# Altium footprint library IPC-7358 BGA_Sq_150P.PcbLib: 47 footprints (part 4 of 6)
Each footprint in its own frame and in the unit in brackets; x right, y up, seen from the top. Pads: shape width x height; smd on the part's side, far side on the other; paste and mask are expansions set on the pad; w line width, h text height; cw(c..) or ccw(c..) is an arc to the next point about the centre after c.
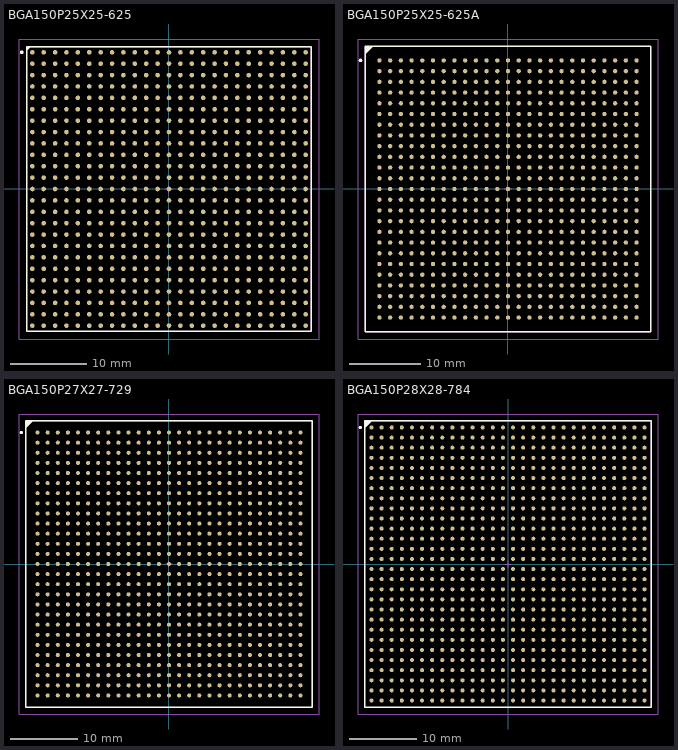
[diagram p3: the footprints below, top view; thin cyan lines are the x and y axes]

## BGA150P25X25-625 [mm] "BGA, 625-Leads, Body 37.5x37.5mm, Pitch 1.5mm"
height 3.5
pads (625):
  round 0.6 smd: A1(-18,18) A2(-16.5,18) A3(-15,18) A4(-13.5,18) A5(-12,18) A6(-10.5,18) A7(-9,18) A8(-7.5,18) A9(-6,18) A10(-4.5,18) A11(-3,18) A12(-1.5,18) A13(0,18) A14(1.5,18) A15(3,18) A16(4.5,18) A17(6,18) A18(7.5,18) A19(9,18) A20(10.5,18) A21(12,18) A22(13.5,18) A23(15,18) A24(16.5,18) A25(18,18) AA1(-18,-12) AA2(-16.5,-12) AA3(-15,-12) AA4(-13.5,-12) AA5(-12,-12) AA6(-10.5,-12) AA7(-9,-12) AA8(-7.5,-12) AA9(-6,-12) AA10(-4.5,-12) AA11(-3,-12) AA12(-1.5,-12) AA13(0,-12) AA14(1.5,-12) AA15(3,-12) AA16(4.5,-12) AA17(6,-12) AA18(7.5,-12) AA19(9,-12) AA20(10.5,-12) AA21(12,-12) AA22(13.5,-12) AA23(15,-12) AA24(16.5,-12) AA25(18,-12) AB1(-18,-13.5) AB2(-16.5,-13.5) AB3(-15,-13.5) AB4(-13.5,-13.5) AB5(-12,-13.5) AB6(-10.5,-13.5) AB7(-9,-13.5) AB8(-7.5,-13.5) AB9(-6,-13.5) AB10(-4.5,-13.5) AB11(-3,-13.5) AB12(-1.5,-13.5) AB13(0,-13.5) AB14(1.5,-13.5) AB15(3,-13.5) AB16(4.5,-13.5) AB17(6,-13.5) AB18(7.5,-13.5) AB19(9,-13.5) AB20(10.5,-13.5) AB21(12,-13.5) AB22(13.5,-13.5) AB23(15,-13.5) AB24(16.5,-13.5) AB25(18,-13.5) AC1(-18,-15) AC2(-16.5,-15) AC3(-15,-15) AC4(-13.5,-15) AC5(-12,-15) AC6(-10.5,-15) AC7(-9,-15) AC8(-7.5,-15) AC9(-6,-15) AC10(-4.5,-15) AC11(-3,-15) AC12(-1.5,-15) AC13(0,-15) AC14(1.5,-15) AC15(3,-15) AC16(4.5,-15) AC17(6,-15) AC18(7.5,-15) AC19(9,-15) AC20(10.5,-15) AC21(12,-15) AC22(13.5,-15) AC23(15,-15) AC24(16.5,-15) AC25(18,-15) AD1(-18,-16.5) AD2(-16.5,-16.5) AD3(-15,-16.5) AD4(-13.5,-16.5) AD5(-12,-16.5) AD6(-10.5,-16.5) AD7(-9,-16.5) AD8(-7.5,-16.5) AD9(-6,-16.5) AD10(-4.5,-16.5) AD11(-3,-16.5) AD12(-1.5,-16.5) AD13(0,-16.5) AD14(1.5,-16.5) AD15(3,-16.5) AD16(4.5,-16.5) AD17(6,-16.5) AD18(7.5,-16.5) AD19(9,-16.5) AD20(10.5,-16.5) AD21(12,-16.5) AD22(13.5,-16.5) AD23(15,-16.5) AD24(16.5,-16.5) AD25(18,-16.5) AE1(-18,-18) AE2(-16.5,-18) AE3(-15,-18) AE4(-13.5,-18) AE5(-12,-18) AE6(-10.5,-18) AE7(-9,-18) AE8(-7.5,-18) AE9(-6,-18) AE10(-4.5,-18) AE11(-3,-18) AE12(-1.5,-18) AE13(0,-18) AE14(1.5,-18) AE15(3,-18) AE16(4.5,-18) AE17(6,-18) AE18(7.5,-18) AE19(9,-18) AE20(10.5,-18) AE21(12,-18) AE22(13.5,-18) AE23(15,-18) AE24(16.5,-18) AE25(18,-18) B1(-18,16.5) B2(-16.5,16.5) B3(-15,16.5) B4(-13.5,16.5) B5(-12,16.5) B6(-10.5,16.5) B7(-9,16.5) B8(-7.5,16.5) B9(-6,16.5) B10(-4.5,16.5) B11(-3,16.5) B12(-1.5,16.5) B13(0,16.5) B14(1.5,16.5) B15(3,16.5) B16(4.5,16.5) B17(6,16.5) B18(7.5,16.5) B19(9,16.5) B20(10.5,16.5) B21(12,16.5) B22(13.5,16.5) B23(15,16.5) B24(16.5,16.5) B25(18,16.5) C1(-18,15) C2(-16.5,15) C3(-15,15) C4(-13.5,15) C5(-12,15) C6(-10.5,15) C7(-9,15) C8(-7.5,15) C9(-6,15) C10(-4.5,15) C11(-3,15) C12(-1.5,15) C13(0,15) C14(1.5,15) C15(3,15) C16(4.5,15) C17(6,15) C18(7.5,15) C19(9,15) C20(10.5,15) C21(12,15) C22(13.5,15) C23(15,15) C24(16.5,15) C25(18,15) D1(-18,13.5) D2(-16.5,13.5) D3(-15,13.5) D4(-13.5,13.5) D5(-12,13.5) D6(-10.5,13.5) D7(-9,13.5) D8(-7.5,13.5) D9(-6,13.5) D10(-4.5,13.5) D11(-3,13.5) D12(-1.5,13.5) D13(0,13.5) D14(1.5,13.5) D15(3,13.5) D16(4.5,13.5) D17(6,13.5) D18(7.5,13.5) D19(9,13.5) D20(10.5,13.5) D21(12,13.5) D22(13.5,13.5) D23(15,13.5) D24(16.5,13.5) D25(18,13.5) E1(-18,12) E2(-16.5,12) E3(-15,12) E4(-13.5,12) E5(-12,12) E6(-10.5,12) E7(-9,12) E8(-7.5,12) E9(-6,12) E10(-4.5,12) E11(-3,12) E12(-1.5,12) E13(0,12) E14(1.5,12) E15(3,12) E16(4.5,12) E17(6,12) E18(7.5,12) E19(9,12) E20(10.5,12) E21(12,12) E22(13.5,12) E23(15,12) E24(16.5,12) E25(18,12) F1(-18,10.5) F2(-16.5,10.5) F3(-15,10.5) F4(-13.5,10.5) F5(-12,10.5) F6(-10.5,10.5) F7(-9,10.5) F8(-7.5,10.5) F9(-6,10.5) F10(-4.5,10.5) F11(-3,10.5) F12(-1.5,10.5) F13(0,10.5) F14(1.5,10.5) F15(3,10.5) F16(4.5,10.5) F17(6,10.5) F18(7.5,10.5) F19(9,10.5) F20(10.5,10.5) F21(12,10.5) F22(13.5,10.5) F23(15,10.5) F24(16.5,10.5) F25(18,10.5) G1(-18,9) G2(-16.5,9) G3(-15,9) G4(-13.5,9) G5(-12,9) G6(-10.5,9) G7(-9,9) G8(-7.5,9) G9(-6,9) G10(-4.5,9) G11(-3,9) G12(-1.5,9) G13(0,9) G14(1.5,9) G15(3,9) G16(4.5,9) G17(6,9) G18(7.5,9) G19(9,9) G20(10.5,9) G21(12,9) G22(13.5,9) G23(15,9) G24(16.5,9) G25(18,9) H1(-18,7.5) H2(-16.5,7.5) H3(-15,7.5) H4(-13.5,7.5) H5(-12,7.5) H6(-10.5,7.5) H7(-9,7.5) H8(-7.5,7.5) H9(-6,7.5) H10(-4.5,7.5) H11(-3,7.5) H12(-1.5,7.5) H13(0,7.5) H14(1.5,7.5) H15(3,7.5) H16(4.5,7.5) H17(6,7.5) H18(7.5,7.5) H19(9,7.5) H20(10.5,7.5) H21(12,7.5) H22(13.5,7.5) H23(15,7.5) H24(16.5,7.5) H25(18,7.5) J1(-18,6) J2(-16.5,6) J3(-15,6) J4(-13.5,6) J5(-12,6) J6(-10.5,6) J7(-9,6) J8(-7.5,6) J9(-6,6) J10(-4.5,6) J11(-3,6) J12(-1.5,6) J13(0,6) J14(1.5,6) J15(3,6) J16(4.5,6) J17(6,6) J18(7.5,6) J19(9,6) J20(10.5,6) J21(12,6) J22(13.5,6) J23(15,6) J24(16.5,6) J25(18,6) K1(-18,4.5) K2(-16.5,4.5) K3(-15,4.5) K4(-13.5,4.5) K5(-12,4.5) K6(-10.5,4.5) K7(-9,4.5) K8(-7.5,4.5) K9(-6,4.5) K10(-4.5,4.5) K11(-3,4.5) K12(-1.5,4.5) K13(0,4.5) K14(1.5,4.5) K15(3,4.5) K16(4.5,4.5) K17(6,4.5) K18(7.5,4.5) K19(9,4.5) K20(10.5,4.5) K21(12,4.5) K22(13.5,4.5) K23(15,4.5) K24(16.5,4.5) K25(18,4.5) L1(-18,3) L2(-16.5,3) L3(-15,3) L4(-13.5,3) L5(-12,3) L6(-10.5,3) L7(-9,3) L8(-7.5,3) L9(-6,3) L10(-4.5,3) L11(-3,3) L12(-1.5,3) L13(0,3) L14(1.5,3) L15(3,3) L16(4.5,3) L17(6,3) L18(7.5,3) L19(9,3) L20(10.5,3) L21(12,3) L22(13.5,3) L23(15,3) L24(16.5,3) L25(18,3) M1(-18,1.5) M2(-16.5,1.5) M3(-15,1.5) M4(-13.5,1.5) M5(-12,1.5) M6(-10.5,1.5) M7(-9,1.5) M8(-7.5,1.5) M9(-6,1.5) M10(-4.5,1.5) M11(-3,1.5) M12(-1.5,1.5) M13(0,1.5) M14(1.5,1.5) M15(3,1.5) M16(4.5,1.5) M17(6,1.5) M18(7.5,1.5) M19(9,1.5) M20(10.5,1.5) M21(12,1.5) M22(13.5,1.5) M23(15,1.5) M24(16.5,1.5) M25(18,1.5) N1(-18,0) N2(-16.5,0) N3(-15,0) N4(-13.5,0) N5(-12,0) N6(-10.5,0) N7(-9,0) N8(-7.5,0) N9(-6,0) N10(-4.5,0) N11(-3,0) N12(-1.5,0) N13(0,0) N14(1.5,0) N15(3,0) N16(4.5,0) N17(6,0) N18(7.5,0) N19(9,0) N20(10.5,0) N21(12,0) N22(13.5,0) N23(15,0) N24(16.5,0) N25(18,0) P1(-18,-1.5) P2(-16.5,-1.5) P3(-15,-1.5) P4(-13.5,-1.5) P5(-12,-1.5) P6(-10.5,-1.5) P7(-9,-1.5) P8(-7.5,-1.5) P9(-6,-1.5) P10(-4.5,-1.5) P11(-3,-1.5) P12(-1.5,-1.5) P13(0,-1.5) P14(1.5,-1.5) P15(3,-1.5) P16(4.5,-1.5) P17(6,-1.5) P18(7.5,-1.5) P19(9,-1.5) P20(10.5,-1.5) P21(12,-1.5) P22(13.5,-1.5) P23(15,-1.5) P24(16.5,-1.5) P25(18,-1.5) R1(-18,-3) R2(-16.5,-3) R3(-15,-3) R4(-13.5,-3) R5(-12,-3) R6(-10.5,-3) R7(-9,-3) R8(-7.5,-3) R9(-6,-3) R10(-4.5,-3) R11(-3,-3) R12(-1.5,-3) R13(0,-3) R14(1.5,-3) R15(3,-3) R16(4.5,-3) R17(6,-3) R18(7.5,-3) R19(9,-3) R20(10.5,-3) R21(12,-3) R22(13.5,-3) R23(15,-3) R24(16.5,-3) R25(18,-3) T1(-18,-4.5) T2(-16.5,-4.5) T3(-15,-4.5) T4(-13.5,-4.5) T5(-12,-4.5) T6(-10.5,-4.5) T7(-9,-4.5) T8(-7.5,-4.5) T9(-6,-4.5) T10(-4.5,-4.5) T11(-3,-4.5) T12(-1.5,-4.5) T13(0,-4.5) T14(1.5,-4.5) T15(3,-4.5) T16(4.5,-4.5) T17(6,-4.5) T18(7.5,-4.5) T19(9,-4.5) T20(10.5,-4.5) T21(12,-4.5) T22(13.5,-4.5) T23(15,-4.5) T24(16.5,-4.5) T25(18,-4.5) U1(-18,-6) U2(-16.5,-6) U3(-15,-6) U4(-13.5,-6) U5(-12,-6) U6(-10.5,-6) U7(-9,-6) U8(-7.5,-6) U9(-6,-6) U10(-4.5,-6) U11(-3,-6) U12(-1.5,-6) U13(0,-6) U14(1.5,-6) U15(3,-6) U16(4.5,-6) U17(6,-6) U18(7.5,-6) U19(9,-6) U20(10.5,-6) U21(12,-6) U22(13.5,-6) U23(15,-6) U24(16.5,-6) U25(18,-6) V1(-18,-7.5) V2(-16.5,-7.5) V3(-15,-7.5) V4(-13.5,-7.5) V5(-12,-7.5) V6(-10.5,-7.5) V7(-9,-7.5) V8(-7.5,-7.5) V9(-6,-7.5) V10(-4.5,-7.5) V11(-3,-7.5) V12(-1.5,-7.5) V13(0,-7.5) V14(1.5,-7.5) V15(3,-7.5) V16(4.5,-7.5) V17(6,-7.5) V18(7.5,-7.5) V19(9,-7.5) V20(10.5,-7.5) V21(12,-7.5) V22(13.5,-7.5) V23(15,-7.5) V24(16.5,-7.5) V25(18,-7.5) W1(-18,-9) W2(-16.5,-9) W3(-15,-9) W4(-13.5,-9) W5(-12,-9) W6(-10.5,-9) W7(-9,-9) W8(-7.5,-9) W9(-6,-9) W10(-4.5,-9) W11(-3,-9) W12(-1.5,-9) W13(0,-9) W14(1.5,-9) W15(3,-9) W16(4.5,-9) W17(6,-9) W18(7.5,-9) W19(9,-9) W20(10.5,-9) W21(12,-9) W22(13.5,-9) W23(15,-9) W24(16.5,-9) W25(18,-9) Y1(-18,-10.5) Y2(-16.5,-10.5) Y3(-15,-10.5) Y4(-13.5,-10.5) Y5(-12,-10.5) Y6(-10.5,-10.5) Y7(-9,-10.5) Y8(-7.5,-10.5) Y9(-6,-10.5) Y10(-4.5,-10.5) Y11(-3,-10.5) Y12(-1.5,-10.5) Y13(0,-10.5) Y14(1.5,-10.5) Y15(3,-10.5) Y16(4.5,-10.5) Y17(6,-10.5) Y18(7.5,-10.5) Y19(9,-10.5) Y20(10.5,-10.5) Y21(12,-10.5) Y22(13.5,-10.5) Y23(15,-10.5) Y24(16.5,-10.5) Y25(18,-10.5)
Top Overlay:
  circle w0.25: c-19.4,18 r0.125
  region: -18.24,18.75 -18.75,18.24 -18.75,18.75
  lines w0.2: -18.75,18.24 -18.24,18.75 ; -18.75,-18.75 18.75,-18.75 18.75,18.75 -18.75,18.75 -18.75,-18.75
Mechanical 13:
  lines w0.1: -18.75,-18.75 18.75,-18.75 18.75,18.75 -18.75,18.75 -18.75,-18.75
Mechanical 15:
  lines w0.1: -0.5,0 0.5,0 ; 0,-0.5 0,0.5 ; -19.75,-19.75 19.75,-19.75 19.75,19.75 -19.75,19.75 -19.75,-19.75
3D body: height 3.5, standoff 0, extent -18.75,-18.75 18.75,18.75

## BGA150P25X25-625A [mm] "BGA, 625-Leads, Body 40x40mm, Pitch 1.5mm"
height 3.5
pads (625):
  round 0.6 smd: A1(-18,18) A2(-16.5,18) A3(-15,18) A4(-13.5,18) A5(-12,18) A6(-10.5,18) A7(-9,18) A8(-7.5,18) A9(-6,18) A10(-4.5,18) A11(-3,18) A12(-1.5,18) A13(0,18) A14(1.5,18) A15(3,18) A16(4.5,18) A17(6,18) A18(7.5,18) A19(9,18) A20(10.5,18) A21(12,18) A22(13.5,18) A23(15,18) A24(16.5,18) A25(18,18) AA1(-18,-12) AA2(-16.5,-12) AA3(-15,-12) AA4(-13.5,-12) AA5(-12,-12) AA6(-10.5,-12) AA7(-9,-12) AA8(-7.5,-12) AA9(-6,-12) AA10(-4.5,-12) AA11(-3,-12) AA12(-1.5,-12) AA13(0,-12) AA14(1.5,-12) AA15(3,-12) AA16(4.5,-12) AA17(6,-12) AA18(7.5,-12) AA19(9,-12) AA20(10.5,-12) AA21(12,-12) AA22(13.5,-12) AA23(15,-12) AA24(16.5,-12) AA25(18,-12) AB1(-18,-13.5) AB2(-16.5,-13.5) AB3(-15,-13.5) AB4(-13.5,-13.5) AB5(-12,-13.5) AB6(-10.5,-13.5) AB7(-9,-13.5) AB8(-7.5,-13.5) AB9(-6,-13.5) AB10(-4.5,-13.5) AB11(-3,-13.5) AB12(-1.5,-13.5) AB13(0,-13.5) AB14(1.5,-13.5) AB15(3,-13.5) AB16(4.5,-13.5) AB17(6,-13.5) AB18(7.5,-13.5) AB19(9,-13.5) AB20(10.5,-13.5) AB21(12,-13.5) AB22(13.5,-13.5) AB23(15,-13.5) AB24(16.5,-13.5) AB25(18,-13.5) AC1(-18,-15) AC2(-16.5,-15) AC3(-15,-15) AC4(-13.5,-15) AC5(-12,-15) AC6(-10.5,-15) AC7(-9,-15) AC8(-7.5,-15) AC9(-6,-15) AC10(-4.5,-15) AC11(-3,-15) AC12(-1.5,-15) AC13(0,-15) AC14(1.5,-15) AC15(3,-15) AC16(4.5,-15) AC17(6,-15) AC18(7.5,-15) AC19(9,-15) AC20(10.5,-15) AC21(12,-15) AC22(13.5,-15) AC23(15,-15) AC24(16.5,-15) AC25(18,-15) AD1(-18,-16.5) AD2(-16.5,-16.5) AD3(-15,-16.5) AD4(-13.5,-16.5) AD5(-12,-16.5) AD6(-10.5,-16.5) AD7(-9,-16.5) AD8(-7.5,-16.5) AD9(-6,-16.5) AD10(-4.5,-16.5) AD11(-3,-16.5) AD12(-1.5,-16.5) AD13(0,-16.5) AD14(1.5,-16.5) AD15(3,-16.5) AD16(4.5,-16.5) AD17(6,-16.5) AD18(7.5,-16.5) AD19(9,-16.5) AD20(10.5,-16.5) AD21(12,-16.5) AD22(13.5,-16.5) AD23(15,-16.5) AD24(16.5,-16.5) AD25(18,-16.5) AE1(-18,-18) AE2(-16.5,-18) AE3(-15,-18) AE4(-13.5,-18) AE5(-12,-18) AE6(-10.5,-18) AE7(-9,-18) AE8(-7.5,-18) AE9(-6,-18) AE10(-4.5,-18) AE11(-3,-18) AE12(-1.5,-18) AE13(0,-18) AE14(1.5,-18) AE15(3,-18) AE16(4.5,-18) AE17(6,-18) AE18(7.5,-18) AE19(9,-18) AE20(10.5,-18) AE21(12,-18) AE22(13.5,-18) AE23(15,-18) AE24(16.5,-18) AE25(18,-18) B1(-18,16.5) B2(-16.5,16.5) B3(-15,16.5) B4(-13.5,16.5) B5(-12,16.5) B6(-10.5,16.5) B7(-9,16.5) B8(-7.5,16.5) B9(-6,16.5) B10(-4.5,16.5) B11(-3,16.5) B12(-1.5,16.5) B13(0,16.5) B14(1.5,16.5) B15(3,16.5) B16(4.5,16.5) B17(6,16.5) B18(7.5,16.5) B19(9,16.5) B20(10.5,16.5) B21(12,16.5) B22(13.5,16.5) B23(15,16.5) B24(16.5,16.5) B25(18,16.5) C1(-18,15) C2(-16.5,15) C3(-15,15) C4(-13.5,15) C5(-12,15) C6(-10.5,15) C7(-9,15) C8(-7.5,15) C9(-6,15) C10(-4.5,15) C11(-3,15) C12(-1.5,15) C13(0,15) C14(1.5,15) C15(3,15) C16(4.5,15) C17(6,15) C18(7.5,15) C19(9,15) C20(10.5,15) C21(12,15) C22(13.5,15) C23(15,15) C24(16.5,15) C25(18,15) D1(-18,13.5) D2(-16.5,13.5) D3(-15,13.5) D4(-13.5,13.5) D5(-12,13.5) D6(-10.5,13.5) D7(-9,13.5) D8(-7.5,13.5) D9(-6,13.5) D10(-4.5,13.5) D11(-3,13.5) D12(-1.5,13.5) D13(0,13.5) D14(1.5,13.5) D15(3,13.5) D16(4.5,13.5) D17(6,13.5) D18(7.5,13.5) D19(9,13.5) D20(10.5,13.5) D21(12,13.5) D22(13.5,13.5) D23(15,13.5) D24(16.5,13.5) D25(18,13.5) E1(-18,12) E2(-16.5,12) E3(-15,12) E4(-13.5,12) E5(-12,12) E6(-10.5,12) E7(-9,12) E8(-7.5,12) E9(-6,12) E10(-4.5,12) E11(-3,12) E12(-1.5,12) E13(0,12) E14(1.5,12) E15(3,12) E16(4.5,12) E17(6,12) E18(7.5,12) E19(9,12) E20(10.5,12) E21(12,12) E22(13.5,12) E23(15,12) E24(16.5,12) E25(18,12) F1(-18,10.5) F2(-16.5,10.5) F3(-15,10.5) F4(-13.5,10.5) F5(-12,10.5) F6(-10.5,10.5) F7(-9,10.5) F8(-7.5,10.5) F9(-6,10.5) F10(-4.5,10.5) F11(-3,10.5) F12(-1.5,10.5) F13(0,10.5) F14(1.5,10.5) F15(3,10.5) F16(4.5,10.5) F17(6,10.5) F18(7.5,10.5) F19(9,10.5) F20(10.5,10.5) F21(12,10.5) F22(13.5,10.5) F23(15,10.5) F24(16.5,10.5) F25(18,10.5) G1(-18,9) G2(-16.5,9) G3(-15,9) G4(-13.5,9) G5(-12,9) G6(-10.5,9) G7(-9,9) G8(-7.5,9) G9(-6,9) G10(-4.5,9) G11(-3,9) G12(-1.5,9) G13(0,9) G14(1.5,9) G15(3,9) G16(4.5,9) G17(6,9) G18(7.5,9) G19(9,9) G20(10.5,9) G21(12,9) G22(13.5,9) G23(15,9) G24(16.5,9) G25(18,9) H1(-18,7.5) H2(-16.5,7.5) H3(-15,7.5) H4(-13.5,7.5) H5(-12,7.5) H6(-10.5,7.5) H7(-9,7.5) H8(-7.5,7.5) H9(-6,7.5) H10(-4.5,7.5) H11(-3,7.5) H12(-1.5,7.5) H13(0,7.5) H14(1.5,7.5) H15(3,7.5) H16(4.5,7.5) H17(6,7.5) H18(7.5,7.5) H19(9,7.5) H20(10.5,7.5) H21(12,7.5) H22(13.5,7.5) H23(15,7.5) H24(16.5,7.5) H25(18,7.5) J1(-18,6) J2(-16.5,6) J3(-15,6) J4(-13.5,6) J5(-12,6) J6(-10.5,6) J7(-9,6) J8(-7.5,6) J9(-6,6) J10(-4.5,6) J11(-3,6) J12(-1.5,6) J13(0,6) J14(1.5,6) J15(3,6) J16(4.5,6) J17(6,6) J18(7.5,6) J19(9,6) J20(10.5,6) J21(12,6) J22(13.5,6) J23(15,6) J24(16.5,6) J25(18,6) K1(-18,4.5) K2(-16.5,4.5) K3(-15,4.5) K4(-13.5,4.5) K5(-12,4.5) K6(-10.5,4.5) K7(-9,4.5) K8(-7.5,4.5) K9(-6,4.5) K10(-4.5,4.5) K11(-3,4.5) K12(-1.5,4.5) K13(0,4.5) K14(1.5,4.5) K15(3,4.5) K16(4.5,4.5) K17(6,4.5) K18(7.5,4.5) K19(9,4.5) K20(10.5,4.5) K21(12,4.5) K22(13.5,4.5) K23(15,4.5) K24(16.5,4.5) K25(18,4.5) L1(-18,3) L2(-16.5,3) L3(-15,3) L4(-13.5,3) L5(-12,3) L6(-10.5,3) L7(-9,3) L8(-7.5,3) L9(-6,3) L10(-4.5,3) L11(-3,3) L12(-1.5,3) L13(0,3) L14(1.5,3) L15(3,3) L16(4.5,3) L17(6,3) L18(7.5,3) L19(9,3) L20(10.5,3) L21(12,3) L22(13.5,3) L23(15,3) L24(16.5,3) L25(18,3) M1(-18,1.5) M2(-16.5,1.5) M3(-15,1.5) M4(-13.5,1.5) M5(-12,1.5) M6(-10.5,1.5) M7(-9,1.5) M8(-7.5,1.5) M9(-6,1.5) M10(-4.5,1.5) M11(-3,1.5) M12(-1.5,1.5) M13(0,1.5) M14(1.5,1.5) M15(3,1.5) M16(4.5,1.5) M17(6,1.5) M18(7.5,1.5) M19(9,1.5) M20(10.5,1.5) M21(12,1.5) M22(13.5,1.5) M23(15,1.5) M24(16.5,1.5) M25(18,1.5) N1(-18,0) N2(-16.5,0) N3(-15,0) N4(-13.5,0) N5(-12,0) N6(-10.5,0) N7(-9,0) N8(-7.5,0) N9(-6,0) N10(-4.5,0) N11(-3,0) N12(-1.5,0) N13(0,0) N14(1.5,0) N15(3,0) N16(4.5,0) N17(6,0) N18(7.5,0) N19(9,0) N20(10.5,0) N21(12,0) N22(13.5,0) N23(15,0) N24(16.5,0) N25(18,0) P1(-18,-1.5) P2(-16.5,-1.5) P3(-15,-1.5) P4(-13.5,-1.5) P5(-12,-1.5) P6(-10.5,-1.5) P7(-9,-1.5) P8(-7.5,-1.5) P9(-6,-1.5) P10(-4.5,-1.5) P11(-3,-1.5) P12(-1.5,-1.5) P13(0,-1.5) P14(1.5,-1.5) P15(3,-1.5) P16(4.5,-1.5) P17(6,-1.5) P18(7.5,-1.5) P19(9,-1.5) P20(10.5,-1.5) P21(12,-1.5) P22(13.5,-1.5) P23(15,-1.5) P24(16.5,-1.5) P25(18,-1.5) R1(-18,-3) R2(-16.5,-3) R3(-15,-3) R4(-13.5,-3) R5(-12,-3) R6(-10.5,-3) R7(-9,-3) R8(-7.5,-3) R9(-6,-3) R10(-4.5,-3) R11(-3,-3) R12(-1.5,-3) R13(0,-3) R14(1.5,-3) R15(3,-3) R16(4.5,-3) R17(6,-3) R18(7.5,-3) R19(9,-3) R20(10.5,-3) R21(12,-3) R22(13.5,-3) R23(15,-3) R24(16.5,-3) R25(18,-3) T1(-18,-4.5) T2(-16.5,-4.5) T3(-15,-4.5) T4(-13.5,-4.5) T5(-12,-4.5) T6(-10.5,-4.5) T7(-9,-4.5) T8(-7.5,-4.5) T9(-6,-4.5) T10(-4.5,-4.5) T11(-3,-4.5) T12(-1.5,-4.5) T13(0,-4.5) T14(1.5,-4.5) T15(3,-4.5) T16(4.5,-4.5) T17(6,-4.5) T18(7.5,-4.5) T19(9,-4.5) T20(10.5,-4.5) T21(12,-4.5) T22(13.5,-4.5) T23(15,-4.5) T24(16.5,-4.5) T25(18,-4.5) U1(-18,-6) U2(-16.5,-6) U3(-15,-6) U4(-13.5,-6) U5(-12,-6) U6(-10.5,-6) U7(-9,-6) U8(-7.5,-6) U9(-6,-6) U10(-4.5,-6) U11(-3,-6) U12(-1.5,-6) U13(0,-6) U14(1.5,-6) U15(3,-6) U16(4.5,-6) U17(6,-6) U18(7.5,-6) U19(9,-6) U20(10.5,-6) U21(12,-6) U22(13.5,-6) U23(15,-6) U24(16.5,-6) U25(18,-6) V1(-18,-7.5) V2(-16.5,-7.5) V3(-15,-7.5) V4(-13.5,-7.5) V5(-12,-7.5) V6(-10.5,-7.5) V7(-9,-7.5) V8(-7.5,-7.5) V9(-6,-7.5) V10(-4.5,-7.5) V11(-3,-7.5) V12(-1.5,-7.5) V13(0,-7.5) V14(1.5,-7.5) V15(3,-7.5) V16(4.5,-7.5) V17(6,-7.5) V18(7.5,-7.5) V19(9,-7.5) V20(10.5,-7.5) V21(12,-7.5) V22(13.5,-7.5) V23(15,-7.5) V24(16.5,-7.5) V25(18,-7.5) W1(-18,-9) W2(-16.5,-9) W3(-15,-9) W4(-13.5,-9) W5(-12,-9) W6(-10.5,-9) W7(-9,-9) W8(-7.5,-9) W9(-6,-9) W10(-4.5,-9) W11(-3,-9) W12(-1.5,-9) W13(0,-9) W14(1.5,-9) W15(3,-9) W16(4.5,-9) W17(6,-9) W18(7.5,-9) W19(9,-9) W20(10.5,-9) W21(12,-9) W22(13.5,-9) W23(15,-9) W24(16.5,-9) W25(18,-9) Y1(-18,-10.5) Y2(-16.5,-10.5) Y3(-15,-10.5) Y4(-13.5,-10.5) Y5(-12,-10.5) Y6(-10.5,-10.5) Y7(-9,-10.5) Y8(-7.5,-10.5) Y9(-6,-10.5) Y10(-4.5,-10.5) Y11(-3,-10.5) Y12(-1.5,-10.5) Y13(0,-10.5) Y14(1.5,-10.5) Y15(3,-10.5) Y16(4.5,-10.5) Y17(6,-10.5) Y18(7.5,-10.5) Y19(9,-10.5) Y20(10.5,-10.5) Y21(12,-10.5) Y22(13.5,-10.5) Y23(15,-10.5) Y24(16.5,-10.5) Y25(18,-10.5)
Top Overlay:
  circle w0.25: c-20.65,18 r0.125
  region: -19,20 -20,19 -20,20
  lines w0.2: -20,19 -19,20 ; -20,-20 20,-20 20,20 -20,20 -20,-20
Mechanical 13:
  lines w0.1: -20,-20 20,-20 20,20 -20,20 -20,-20
Mechanical 15:
  lines w0.1: -0.5,0 0.5,0 ; 0,-0.5 0,0.5 ; -21,-21 21,-21 21,21 -21,21 -21,-21
3D body: height 3.5, standoff 0, extent -20,-20 20,20

## BGA150P27X27-729 [mm] "BGA, 729-Leads, Body 42.5x42.5mm, Pitch 1.5mm"
height 3.5
pads (729):
  round 0.6 smd: A1(-19.5,19.5) A2(-18,19.5) A3(-16.5,19.5) A4(-15,19.5) A5(-13.5,19.5) A6(-12,19.5) A7(-10.5,19.5) A8(-9,19.5) A9(-7.5,19.5) A10(-6,19.5) A11(-4.5,19.5) A12(-3,19.5) A13(-1.5,19.5) A14(0,19.5) A15(1.5,19.5) A16(3,19.5) A17(4.5,19.5) A18(6,19.5) A19(7.5,19.5) A20(9,19.5) A21(10.5,19.5) A22(12,19.5) A23(13.5,19.5) A24(15,19.5) A25(16.5,19.5) A26(18,19.5) A27(19.5,19.5) AA1(-19.5,-10.5) AA2(-18,-10.5) AA3(-16.5,-10.5) AA4(-15,-10.5) AA5(-13.5,-10.5) AA6(-12,-10.5) AA7(-10.5,-10.5) AA8(-9,-10.5) AA9(-7.5,-10.5) AA10(-6,-10.5) AA11(-4.5,-10.5) AA12(-3,-10.5) AA13(-1.5,-10.5) AA14(0,-10.5) AA15(1.5,-10.5) AA16(3,-10.5) AA17(4.5,-10.5) AA18(6,-10.5) AA19(7.5,-10.5) AA20(9,-10.5) AA21(10.5,-10.5) AA22(12,-10.5) AA23(13.5,-10.5) AA24(15,-10.5) AA25(16.5,-10.5) AA26(18,-10.5) AA27(19.5,-10.5) AB1(-19.5,-12) AB2(-18,-12) AB3(-16.5,-12) AB4(-15,-12) AB5(-13.5,-12) AB6(-12,-12) AB7(-10.5,-12) AB8(-9,-12) AB9(-7.5,-12) AB10(-6,-12) AB11(-4.5,-12) AB12(-3,-12) AB13(-1.5,-12) AB14(0,-12) AB15(1.5,-12) AB16(3,-12) AB17(4.5,-12) AB18(6,-12) AB19(7.5,-12) AB20(9,-12) AB21(10.5,-12) AB22(12,-12) AB23(13.5,-12) AB24(15,-12) AB25(16.5,-12) AB26(18,-12) AB27(19.5,-12) AC1(-19.5,-13.5) AC2(-18,-13.5) AC3(-16.5,-13.5) AC4(-15,-13.5) AC5(-13.5,-13.5) AC6(-12,-13.5) AC7(-10.5,-13.5) AC8(-9,-13.5) AC9(-7.5,-13.5) AC10(-6,-13.5) AC11(-4.5,-13.5) AC12(-3,-13.5) AC13(-1.5,-13.5) AC14(0,-13.5) AC15(1.5,-13.5) AC16(3,-13.5) AC17(4.5,-13.5) AC18(6,-13.5) AC19(7.5,-13.5) AC20(9,-13.5) AC21(10.5,-13.5) AC22(12,-13.5) AC23(13.5,-13.5) AC24(15,-13.5) AC25(16.5,-13.5) AC26(18,-13.5) AC27(19.5,-13.5) AD1(-19.5,-15) AD2(-18,-15) AD3(-16.5,-15) AD4(-15,-15) AD5(-13.5,-15) AD6(-12,-15) AD7(-10.5,-15) AD8(-9,-15) AD9(-7.5,-15) AD10(-6,-15) AD11(-4.5,-15) AD12(-3,-15) AD13(-1.5,-15) AD14(0,-15) AD15(1.5,-15) AD16(3,-15) AD17(4.5,-15) AD18(6,-15) AD19(7.5,-15) AD20(9,-15) AD21(10.5,-15) AD22(12,-15) AD23(13.5,-15) AD24(15,-15) AD25(16.5,-15) AD26(18,-15) AD27(19.5,-15) AE1(-19.5,-16.5) AE2(-18,-16.5) AE3(-16.5,-16.5) AE4(-15,-16.5) AE5(-13.5,-16.5) AE6(-12,-16.5) AE7(-10.5,-16.5) AE8(-9,-16.5) AE9(-7.5,-16.5) AE10(-6,-16.5) AE11(-4.5,-16.5) AE12(-3,-16.5) AE13(-1.5,-16.5) AE14(0,-16.5) AE15(1.5,-16.5) AE16(3,-16.5) AE17(4.5,-16.5) AE18(6,-16.5) AE19(7.5,-16.5) AE20(9,-16.5) AE21(10.5,-16.5) AE22(12,-16.5) AE23(13.5,-16.5) AE24(15,-16.5) AE25(16.5,-16.5) AE26(18,-16.5) AE27(19.5,-16.5) AF1(-19.5,-18) AF2(-18,-18) AF3(-16.5,-18) AF4(-15,-18) AF5(-13.5,-18) AF6(-12,-18) AF7(-10.5,-18) AF8(-9,-18) AF9(-7.5,-18) AF10(-6,-18) AF11(-4.5,-18) AF12(-3,-18) AF13(-1.5,-18) AF14(0,-18) AF15(1.5,-18) AF16(3,-18) AF17(4.5,-18) AF18(6,-18) AF19(7.5,-18) AF20(9,-18) AF21(10.5,-18) AF22(12,-18) AF23(13.5,-18) AF24(15,-18) AF25(16.5,-18) AF26(18,-18) AF27(19.5,-18) AG1(-19.5,-19.5) AG2(-18,-19.5) AG3(-16.5,-19.5) AG4(-15,-19.5) AG5(-13.5,-19.5) AG6(-12,-19.5) AG7(-10.5,-19.5) AG8(-9,-19.5) AG9(-7.5,-19.5) AG10(-6,-19.5) AG11(-4.5,-19.5) AG12(-3,-19.5) AG13(-1.5,-19.5) AG14(0,-19.5) AG15(1.5,-19.5) AG16(3,-19.5) AG17(4.5,-19.5) AG18(6,-19.5) AG19(7.5,-19.5) AG20(9,-19.5) AG21(10.5,-19.5) AG22(12,-19.5) AG23(13.5,-19.5) AG24(15,-19.5) AG25(16.5,-19.5) AG26(18,-19.5) AG27(19.5,-19.5) B1(-19.5,18) B2(-18,18) B3(-16.5,18) B4(-15,18) B5(-13.5,18) B6(-12,18) B7(-10.5,18) B8(-9,18) B9(-7.5,18) B10(-6,18) B11(-4.5,18) B12(-3,18) B13(-1.5,18) B14(0,18) B15(1.5,18) B16(3,18) B17(4.5,18) B18(6,18) B19(7.5,18) B20(9,18) B21(10.5,18) B22(12,18) B23(13.5,18) B24(15,18) B25(16.5,18) B26(18,18) B27(19.5,18) C1(-19.5,16.5) C2(-18,16.5) C3(-16.5,16.5) C4(-15,16.5) C5(-13.5,16.5) C6(-12,16.5) C7(-10.5,16.5) C8(-9,16.5) C9(-7.5,16.5) C10(-6,16.5) C11(-4.5,16.5) C12(-3,16.5) C13(-1.5,16.5) C14(0,16.5) C15(1.5,16.5) C16(3,16.5) C17(4.5,16.5) C18(6,16.5) C19(7.5,16.5) C20(9,16.5) C21(10.5,16.5) C22(12,16.5) C23(13.5,16.5) C24(15,16.5) C25(16.5,16.5) C26(18,16.5) C27(19.5,16.5) D1(-19.5,15) D2(-18,15) D3(-16.5,15) D4(-15,15) D5(-13.5,15) D6(-12,15) D7(-10.5,15) D8(-9,15) D9(-7.5,15) D10(-6,15) D11(-4.5,15) D12(-3,15) D13(-1.5,15) D14(0,15) D15(1.5,15) D16(3,15) D17(4.5,15) D18(6,15) D19(7.5,15) D20(9,15) D21(10.5,15) D22(12,15) D23(13.5,15) D24(15,15) D25(16.5,15) D26(18,15) D27(19.5,15) E1(-19.5,13.5) E2(-18,13.5) E3(-16.5,13.5) E4(-15,13.5) E5(-13.5,13.5) E6(-12,13.5) E7(-10.5,13.5) E8(-9,13.5) E9(-7.5,13.5) E10(-6,13.5) E11(-4.5,13.5) E12(-3,13.5) E13(-1.5,13.5) E14(0,13.5) E15(1.5,13.5) E16(3,13.5) E17(4.5,13.5) E18(6,13.5) E19(7.5,13.5) E20(9,13.5) E21(10.5,13.5) E22(12,13.5) E23(13.5,13.5) E24(15,13.5) E25(16.5,13.5) E26(18,13.5) E27(19.5,13.5) F1(-19.5,12) F2(-18,12) F3(-16.5,12) F4(-15,12) F5(-13.5,12) F6(-12,12) F7(-10.5,12) F8(-9,12) F9(-7.5,12) F10(-6,12) F11(-4.5,12) F12(-3,12) F13(-1.5,12) F14(0,12) F15(1.5,12) F16(3,12) F17(4.5,12) F18(6,12) F19(7.5,12) F20(9,12) F21(10.5,12) F22(12,12) F23(13.5,12) F24(15,12) F25(16.5,12) F26(18,12) F27(19.5,12) G1(-19.5,10.5) G2(-18,10.5) G3(-16.5,10.5) G4(-15,10.5) G5(-13.5,10.5) G6(-12,10.5) G7(-10.5,10.5) G8(-9,10.5) G9(-7.5,10.5) G10(-6,10.5) G11(-4.5,10.5) G12(-3,10.5) G13(-1.5,10.5) G14(0,10.5) G15(1.5,10.5) G16(3,10.5) G17(4.5,10.5) G18(6,10.5) G19(7.5,10.5) G20(9,10.5) G21(10.5,10.5) G22(12,10.5) G23(13.5,10.5) G24(15,10.5) G25(16.5,10.5) G26(18,10.5) G27(19.5,10.5) H1(-19.5,9) H2(-18,9) H3(-16.5,9) H4(-15,9) H5(-13.5,9) H6(-12,9) H7(-10.5,9) H8(-9,9) H9(-7.5,9) H10(-6,9) H11(-4.5,9) H12(-3,9) H13(-1.5,9) H14(0,9) H15(1.5,9) H16(3,9) H17(4.5,9) H18(6,9) H19(7.5,9) H20(9,9) H21(10.5,9) H22(12,9) H23(13.5,9) H24(15,9) H25(16.5,9) H26(18,9) H27(19.5,9) J1(-19.5,7.5) J2(-18,7.5) J3(-16.5,7.5) J4(-15,7.5) J5(-13.5,7.5) J6(-12,7.5) J7(-10.5,7.5) J8(-9,7.5) J9(-7.5,7.5) J10(-6,7.5) J11(-4.5,7.5) J12(-3,7.5) J13(-1.5,7.5) J14(0,7.5) J15(1.5,7.5) J16(3,7.5) J17(4.5,7.5) J18(6,7.5) J19(7.5,7.5) J20(9,7.5) J21(10.5,7.5) J22(12,7.5) J23(13.5,7.5) J24(15,7.5) J25(16.5,7.5) J26(18,7.5) J27(19.5,7.5) K1(-19.5,6) K2(-18,6) K3(-16.5,6) K4(-15,6) K5(-13.5,6) K6(-12,6) K7(-10.5,6) K8(-9,6) K9(-7.5,6) K10(-6,6) K11(-4.5,6) K12(-3,6) K13(-1.5,6) K14(0,6) K15(1.5,6) K16(3,6) K17(4.5,6) K18(6,6) K19(7.5,6) K20(9,6) K21(10.5,6) K22(12,6) K23(13.5,6) K24(15,6) K25(16.5,6) K26(18,6) K27(19.5,6) L1(-19.5,4.5) L2(-18,4.5) L3(-16.5,4.5) L4(-15,4.5) L5(-13.5,4.5) L6(-12,4.5) L7(-10.5,4.5) L8(-9,4.5) L9(-7.5,4.5) L10(-6,4.5) L11(-4.5,4.5) L12(-3,4.5) L13(-1.5,4.5) L14(0,4.5) L15(1.5,4.5) L16(3,4.5) L17(4.5,4.5) L18(6,4.5) L19(7.5,4.5) L20(9,4.5) L21(10.5,4.5) L22(12,4.5) L23(13.5,4.5) L24(15,4.5) L25(16.5,4.5) L26(18,4.5) L27(19.5,4.5) M1(-19.5,3) M2(-18,3) M3(-16.5,3) M4(-15,3) M5(-13.5,3) M6(-12,3) M7(-10.5,3) M8(-9,3) M9(-7.5,3) M10(-6,3) M11(-4.5,3) M12(-3,3) M13(-1.5,3) M14(0,3) M15(1.5,3) M16(3,3) M17(4.5,3) M18(6,3) M19(7.5,3) M20(9,3) M21(10.5,3) M22(12,3) M23(13.5,3) M24(15,3) M25(16.5,3) M26(18,3) M27(19.5,3) N1(-19.5,1.5) N2(-18,1.5) N3(-16.5,1.5) N4(-15,1.5) N5(-13.5,1.5) N6(-12,1.5) N7(-10.5,1.5) N8(-9,1.5) N9(-7.5,1.5) N10(-6,1.5) N11(-4.5,1.5) N12(-3,1.5) N13(-1.5,1.5) N14(0,1.5) N15(1.5,1.5) N16(3,1.5) N17(4.5,1.5) N18(6,1.5) N19(7.5,1.5) N20(9,1.5) N21(10.5,1.5) N22(12,1.5) N23(13.5,1.5) N24(15,1.5) N25(16.5,1.5) N26(18,1.5) N27(19.5,1.5) P1(-19.5,0) P2(-18,0) P3(-16.5,0) P4(-15,0) P5(-13.5,0) P6(-12,0) P7(-10.5,0) P8(-9,0) P9(-7.5,0) P10(-6,0) P11(-4.5,0) P12(-3,0) P13(-1.5,0) P14(0,0) P15(1.5,0) P16(3,0) P17(4.5,0) P18(6,0) P19(7.5,0) P20(9,0) P21(10.5,0) P22(12,0) P23(13.5,0) P24(15,0) P25(16.5,0) P26(18,0) P27(19.5,0) R1(-19.5,-1.5) R2(-18,-1.5) R3(-16.5,-1.5) R4(-15,-1.5) R5(-13.5,-1.5) R6(-12,-1.5) R7(-10.5,-1.5) R8(-9,-1.5) R9(-7.5,-1.5) R10(-6,-1.5) R11(-4.5,-1.5) R12(-3,-1.5) R13(-1.5,-1.5) R14(0,-1.5) R15(1.5,-1.5) R16(3,-1.5) R17(4.5,-1.5) R18(6,-1.5) R19(7.5,-1.5) R20(9,-1.5) R21(10.5,-1.5) R22(12,-1.5) R23(13.5,-1.5) R24(15,-1.5) R25(16.5,-1.5) R26(18,-1.5) R27(19.5,-1.5) T1(-19.5,-3) T2(-18,-3) T3(-16.5,-3) T4(-15,-3) T5(-13.5,-3) T6(-12,-3) T7(-10.5,-3) T8(-9,-3) T9(-7.5,-3) T10(-6,-3) T11(-4.5,-3) T12(-3,-3) T13(-1.5,-3) T14(0,-3) T15(1.5,-3) T16(3,-3) T17(4.5,-3) T18(6,-3) T19(7.5,-3) T20(9,-3) T21(10.5,-3) T22(12,-3) T23(13.5,-3) T24(15,-3) T25(16.5,-3) T26(18,-3) T27(19.5,-3) U1(-19.5,-4.5) U2(-18,-4.5) U3(-16.5,-4.5) U4(-15,-4.5) U5(-13.5,-4.5) U6(-12,-4.5) U7(-10.5,-4.5) U8(-9,-4.5) U9(-7.5,-4.5) U10(-6,-4.5) U11(-4.5,-4.5) U12(-3,-4.5) U13(-1.5,-4.5) U14(0,-4.5) U15(1.5,-4.5) U16(3,-4.5) U17(4.5,-4.5) U18(6,-4.5) U19(7.5,-4.5) U20(9,-4.5) U21(10.5,-4.5) U22(12,-4.5) U23(13.5,-4.5) U24(15,-4.5) U25(16.5,-4.5) U26(18,-4.5) U27(19.5,-4.5) V1(-19.5,-6) V2(-18,-6) V3(-16.5,-6) V4(-15,-6) V5(-13.5,-6) V6(-12,-6) V7(-10.5,-6) V8(-9,-6) V9(-7.5,-6) V10(-6,-6) V11(-4.5,-6) V12(-3,-6) V13(-1.5,-6) V14(0,-6) V15(1.5,-6) V16(3,-6) V17(4.5,-6) V18(6,-6) V19(7.5,-6) V20(9,-6) V21(10.5,-6) V22(12,-6) V23(13.5,-6) V24(15,-6) V25(16.5,-6) V26(18,-6) V27(19.5,-6) W1(-19.5,-7.5) W2(-18,-7.5) W3(-16.5,-7.5) W4(-15,-7.5) W5(-13.5,-7.5) W6(-12,-7.5) W7(-10.5,-7.5) W8(-9,-7.5) W9(-7.5,-7.5) W10(-6,-7.5) W11(-4.5,-7.5) W12(-3,-7.5) W13(-1.5,-7.5) W14(0,-7.5) W15(1.5,-7.5) W16(3,-7.5) W17(4.5,-7.5) W18(6,-7.5) W19(7.5,-7.5) W20(9,-7.5) W21(10.5,-7.5) W22(12,-7.5) W23(13.5,-7.5) W24(15,-7.5) W25(16.5,-7.5) W26(18,-7.5) W27(19.5,-7.5) Y1(-19.5,-9) Y2(-18,-9) Y3(-16.5,-9) Y4(-15,-9) Y5(-13.5,-9) Y6(-12,-9) Y7(-10.5,-9) Y8(-9,-9) Y9(-7.5,-9) Y10(-6,-9) Y11(-4.5,-9) Y12(-3,-9) Y13(-1.5,-9) Y14(0,-9) Y15(1.5,-9) Y16(3,-9) Y17(4.5,-9) Y18(6,-9) Y19(7.5,-9) Y20(9,-9) Y21(10.5,-9) Y22(12,-9) Y23(13.5,-9) Y24(15,-9) Y25(16.5,-9) Y26(18,-9) Y27(19.5,-9)
Top Overlay:
  circle w0.25: c-21.9,19.5 r0.125
  region: -20.25,21.25 -21.25,20.25 -21.25,21.25
  lines w0.2: -21.25,20.25 -20.25,21.25 ; -21.25,-21.25 21.25,-21.25 21.25,21.25 -21.25,21.25 -21.25,-21.25
Mechanical 13:
  lines w0.1: -21.25,-21.25 21.25,-21.25 21.25,21.25 -21.25,21.25 -21.25,-21.25
Mechanical 15:
  lines w0.1: -0.5,0 0.5,0 ; 0,-0.5 0,0.5 ; -22.25,-22.25 22.25,-22.25 22.25,22.25 -22.25,22.25 -22.25,-22.25
3D body: height 3.5, standoff 0, extent -21.25,-21.25 21.25,21.25

## BGA150P28X28-784 [mm] "BGA, 784-Leads, Body 42.5x42.5mm, Pitch 1.5mm"
height 3.5
pads (784):
  round 0.6 smd: A1(-20.25,20.25) A2(-18.75,20.25) A3(-17.25,20.25) A4(-15.75,20.25) A5(-14.25,20.25) A6(-12.75,20.25) A7(-11.25,20.25) A8(-9.75,20.25) A9(-8.25,20.25) A10(-6.75,20.25) A11(-5.25,20.25) A12(-3.75,20.25) A13(-2.25,20.25) A14(-0.75,20.25) A15(0.75,20.25) A16(2.25,20.25) A17(3.75,20.25) A18(5.25,20.25) A19(6.75,20.25) A20(8.25,20.25) A21(9.75,20.25) A22(11.25,20.25) A23(12.75,20.25) A24(14.25,20.25) A25(15.75,20.25) A26(17.25,20.25) A27(18.75,20.25) A28(20.25,20.25) AA1(-20.25,-9.75) AA2(-18.75,-9.75) AA3(-17.25,-9.75) AA4(-15.75,-9.75) AA5(-14.25,-9.75) AA6(-12.75,-9.75) AA7(-11.25,-9.75) AA8(-9.75,-9.75) AA9(-8.25,-9.75) AA10(-6.75,-9.75) AA11(-5.25,-9.75) AA12(-3.75,-9.75) AA13(-2.25,-9.75) AA14(-0.75,-9.75) AA15(0.75,-9.75) AA16(2.25,-9.75) AA17(3.75,-9.75) AA18(5.25,-9.75) AA19(6.75,-9.75) AA20(8.25,-9.75) AA21(9.75,-9.75) AA22(11.25,-9.75) AA23(12.75,-9.75) AA24(14.25,-9.75) AA25(15.75,-9.75) AA26(17.25,-9.75) AA27(18.75,-9.75) AA28(20.25,-9.75) AB1(-20.25,-11.25) AB2(-18.75,-11.25) AB3(-17.25,-11.25) AB4(-15.75,-11.25) AB5(-14.25,-11.25) AB6(-12.75,-11.25) AB7(-11.25,-11.25) AB8(-9.75,-11.25) AB9(-8.25,-11.25) AB10(-6.75,-11.25) AB11(-5.25,-11.25) AB12(-3.75,-11.25) AB13(-2.25,-11.25) AB14(-0.75,-11.25) AB15(0.75,-11.25) AB16(2.25,-11.25) AB17(3.75,-11.25) AB18(5.25,-11.25) AB19(6.75,-11.25) AB20(8.25,-11.25) AB21(9.75,-11.25) AB22(11.25,-11.25) AB23(12.75,-11.25) AB24(14.25,-11.25) AB25(15.75,-11.25) AB26(17.25,-11.25) AB27(18.75,-11.25) AB28(20.25,-11.25) AC1(-20.25,-12.75) AC2(-18.75,-12.75) AC3(-17.25,-12.75) AC4(-15.75,-12.75) AC5(-14.25,-12.75) AC6(-12.75,-12.75) AC7(-11.25,-12.75) AC8(-9.75,-12.75) AC9(-8.25,-12.75) AC10(-6.75,-12.75) AC11(-5.25,-12.75) AC12(-3.75,-12.75) AC13(-2.25,-12.75) AC14(-0.75,-12.75) AC15(0.75,-12.75) AC16(2.25,-12.75) AC17(3.75,-12.75) AC18(5.25,-12.75) AC19(6.75,-12.75) AC20(8.25,-12.75) AC21(9.75,-12.75) AC22(11.25,-12.75) AC23(12.75,-12.75) AC24(14.25,-12.75) AC25(15.75,-12.75) AC26(17.25,-12.75) AC27(18.75,-12.75) AC28(20.25,-12.75) AD1(-20.25,-14.25) AD2(-18.75,-14.25) AD3(-17.25,-14.25) AD4(-15.75,-14.25) AD5(-14.25,-14.25) AD6(-12.75,-14.25) AD7(-11.25,-14.25) AD8(-9.75,-14.25) AD9(-8.25,-14.25) AD10(-6.75,-14.25) AD11(-5.25,-14.25) AD12(-3.75,-14.25) AD13(-2.25,-14.25) AD14(-0.75,-14.25) AD15(0.75,-14.25) AD16(2.25,-14.25) AD17(3.75,-14.25) AD18(5.25,-14.25) AD19(6.75,-14.25) AD20(8.25,-14.25) AD21(9.75,-14.25) AD22(11.25,-14.25) AD23(12.75,-14.25) AD24(14.25,-14.25) AD25(15.75,-14.25) AD26(17.25,-14.25) AD27(18.75,-14.25) AD28(20.25,-14.25) AE1(-20.25,-15.75) AE2(-18.75,-15.75) AE3(-17.25,-15.75) AE4(-15.75,-15.75) AE5(-14.25,-15.75) AE6(-12.75,-15.75) AE7(-11.25,-15.75) AE8(-9.75,-15.75) AE9(-8.25,-15.75) AE10(-6.75,-15.75) AE11(-5.25,-15.75) AE12(-3.75,-15.75) AE13(-2.25,-15.75) AE14(-0.75,-15.75) AE15(0.75,-15.75) AE16(2.25,-15.75) AE17(3.75,-15.75) AE18(5.25,-15.75) AE19(6.75,-15.75) AE20(8.25,-15.75) AE21(9.75,-15.75) AE22(11.25,-15.75) AE23(12.75,-15.75) AE24(14.25,-15.75) AE25(15.75,-15.75) AE26(17.25,-15.75) AE27(18.75,-15.75) AE28(20.25,-15.75) AF1(-20.25,-17.25) AF2(-18.75,-17.25) AF3(-17.25,-17.25) AF4(-15.75,-17.25) AF5(-14.25,-17.25) AF6(-12.75,-17.25) AF7(-11.25,-17.25) AF8(-9.75,-17.25) AF9(-8.25,-17.25) AF10(-6.75,-17.25) AF11(-5.25,-17.25) AF12(-3.75,-17.25) AF13(-2.25,-17.25) AF14(-0.75,-17.25) AF15(0.75,-17.25) AF16(2.25,-17.25) AF17(3.75,-17.25) AF18(5.25,-17.25) AF19(6.75,-17.25) AF20(8.25,-17.25) AF21(9.75,-17.25) AF22(11.25,-17.25) AF23(12.75,-17.25) AF24(14.25,-17.25) AF25(15.75,-17.25) AF26(17.25,-17.25) AF27(18.75,-17.25) AF28(20.25,-17.25) AG1(-20.25,-18.75) AG2(-18.75,-18.75) AG3(-17.25,-18.75) AG4(-15.75,-18.75) AG5(-14.25,-18.75) AG6(-12.75,-18.75) AG7(-11.25,-18.75) AG8(-9.75,-18.75) AG9(-8.25,-18.75) AG10(-6.75,-18.75) AG11(-5.25,-18.75) AG12(-3.75,-18.75) AG13(-2.25,-18.75) AG14(-0.75,-18.75) AG15(0.75,-18.75) AG16(2.25,-18.75) AG17(3.75,-18.75) AG18(5.25,-18.75) AG19(6.75,-18.75) AG20(8.25,-18.75) AG21(9.75,-18.75) AG22(11.25,-18.75) AG23(12.75,-18.75) AG24(14.25,-18.75) AG25(15.75,-18.75) AG26(17.25,-18.75) AG27(18.75,-18.75) AG28(20.25,-18.75) AH1(-20.25,-20.25) AH2(-18.75,-20.25) AH3(-17.25,-20.25) AH4(-15.75,-20.25) AH5(-14.25,-20.25) AH6(-12.75,-20.25) AH7(-11.25,-20.25) AH8(-9.75,-20.25) AH9(-8.25,-20.25) AH10(-6.75,-20.25) AH11(-5.25,-20.25) AH12(-3.75,-20.25) AH13(-2.25,-20.25) AH14(-0.75,-20.25) AH15(0.75,-20.25) AH16(2.25,-20.25) AH17(3.75,-20.25) AH18(5.25,-20.25) AH19(6.75,-20.25) AH20(8.25,-20.25) AH21(9.75,-20.25) AH22(11.25,-20.25) AH23(12.75,-20.25) AH24(14.25,-20.25) AH25(15.75,-20.25) AH26(17.25,-20.25) AH27(18.75,-20.25) AH28(20.25,-20.25) B1(-20.25,18.75) B2(-18.75,18.75) B3(-17.25,18.75) B4(-15.75,18.75) B5(-14.25,18.75) B6(-12.75,18.75) B7(-11.25,18.75) B8(-9.75,18.75) B9(-8.25,18.75) B10(-6.75,18.75) B11(-5.25,18.75) B12(-3.75,18.75) B13(-2.25,18.75) B14(-0.75,18.75) B15(0.75,18.75) B16(2.25,18.75) B17(3.75,18.75) B18(5.25,18.75) B19(6.75,18.75) B20(8.25,18.75) B21(9.75,18.75) B22(11.25,18.75) B23(12.75,18.75) B24(14.25,18.75) B25(15.75,18.75) B26(17.25,18.75) B27(18.75,18.75) B28(20.25,18.75) C1(-20.25,17.25) C2(-18.75,17.25) C3(-17.25,17.25) C4(-15.75,17.25) C5(-14.25,17.25) C6(-12.75,17.25) C7(-11.25,17.25) C8(-9.75,17.25) C9(-8.25,17.25) C10(-6.75,17.25) C11(-5.25,17.25) C12(-3.75,17.25) C13(-2.25,17.25) C14(-0.75,17.25) C15(0.75,17.25) C16(2.25,17.25) C17(3.75,17.25) C18(5.25,17.25) C19(6.75,17.25) C20(8.25,17.25) C21(9.75,17.25) C22(11.25,17.25) C23(12.75,17.25) C24(14.25,17.25) C25(15.75,17.25) C26(17.25,17.25) C27(18.75,17.25) C28(20.25,17.25) D1(-20.25,15.75) D2(-18.75,15.75) D3(-17.25,15.75) D4(-15.75,15.75) D5(-14.25,15.75) D6(-12.75,15.75) D7(-11.25,15.75) D8(-9.75,15.75) D9(-8.25,15.75) D10(-6.75,15.75) D11(-5.25,15.75) D12(-3.75,15.75) D13(-2.25,15.75) D14(-0.75,15.75) D15(0.75,15.75) D16(2.25,15.75) D17(3.75,15.75) D18(5.25,15.75) D19(6.75,15.75) D20(8.25,15.75) D21(9.75,15.75) D22(11.25,15.75) D23(12.75,15.75) D24(14.25,15.75) D25(15.75,15.75) D26(17.25,15.75) D27(18.75,15.75) D28(20.25,15.75) E1(-20.25,14.25) E2(-18.75,14.25) E3(-17.25,14.25) E4(-15.75,14.25) E5(-14.25,14.25) E6(-12.75,14.25) E7(-11.25,14.25) E8(-9.75,14.25) E9(-8.25,14.25) E10(-6.75,14.25) E11(-5.25,14.25) E12(-3.75,14.25) E13(-2.25,14.25) E14(-0.75,14.25) E15(0.75,14.25) E16(2.25,14.25) E17(3.75,14.25) E18(5.25,14.25) E19(6.75,14.25) E20(8.25,14.25) E21(9.75,14.25) E22(11.25,14.25) E23(12.75,14.25) E24(14.25,14.25) E25(15.75,14.25) E26(17.25,14.25) E27(18.75,14.25) E28(20.25,14.25) F1(-20.25,12.75) F2(-18.75,12.75) F3(-17.25,12.75) F4(-15.75,12.75) F5(-14.25,12.75) F6(-12.75,12.75) F7(-11.25,12.75) F8(-9.75,12.75) F9(-8.25,12.75) F10(-6.75,12.75) F11(-5.25,12.75) F12(-3.75,12.75) F13(-2.25,12.75) F14(-0.75,12.75) F15(0.75,12.75) F16(2.25,12.75) F17(3.75,12.75) F18(5.25,12.75) F19(6.75,12.75) F20(8.25,12.75) F21(9.75,12.75) F22(11.25,12.75) F23(12.75,12.75) F24(14.25,12.75) F25(15.75,12.75) F26(17.25,12.75) F27(18.75,12.75) F28(20.25,12.75) G1(-20.25,11.25) G2(-18.75,11.25) G3(-17.25,11.25) G4(-15.75,11.25) G5(-14.25,11.25) G6(-12.75,11.25) G7(-11.25,11.25) G8(-9.75,11.25) G9(-8.25,11.25) G10(-6.75,11.25) G11(-5.25,11.25) G12(-3.75,11.25) G13(-2.25,11.25) G14(-0.75,11.25) G15(0.75,11.25) G16(2.25,11.25) G17(3.75,11.25) G18(5.25,11.25) G19(6.75,11.25) G20(8.25,11.25) G21(9.75,11.25) G22(11.25,11.25) G23(12.75,11.25) G24(14.25,11.25) G25(15.75,11.25) G26(17.25,11.25) G27(18.75,11.25) G28(20.25,11.25) H1(-20.25,9.75) H2(-18.75,9.75) H3(-17.25,9.75) H4(-15.75,9.75) H5(-14.25,9.75) H6(-12.75,9.75) H7(-11.25,9.75) H8(-9.75,9.75) H9(-8.25,9.75) H10(-6.75,9.75) H11(-5.25,9.75) H12(-3.75,9.75) H13(-2.25,9.75) H14(-0.75,9.75) H15(0.75,9.75) H16(2.25,9.75) H17(3.75,9.75) H18(5.25,9.75) H19(6.75,9.75) H20(8.25,9.75) H21(9.75,9.75) H22(11.25,9.75) H23(12.75,9.75) H24(14.25,9.75) H25(15.75,9.75) H26(17.25,9.75) H27(18.75,9.75) H28(20.25,9.75) J1(-20.25,8.25) J2(-18.75,8.25) J3(-17.25,8.25) J4(-15.75,8.25) J5(-14.25,8.25) J6(-12.75,8.25) J7(-11.25,8.25) J8(-9.75,8.25) J9(-8.25,8.25) J10(-6.75,8.25) J11(-5.25,8.25) J12(-3.75,8.25) J13(-2.25,8.25) J14(-0.75,8.25) J15(0.75,8.25) J16(2.25,8.25) J17(3.75,8.25) J18(5.25,8.25) J19(6.75,8.25) J20(8.25,8.25) J21(9.75,8.25) J22(11.25,8.25) J23(12.75,8.25) J24(14.25,8.25) J25(15.75,8.25) J26(17.25,8.25) J27(18.75,8.25) J28(20.25,8.25) K1(-20.25,6.75) K2(-18.75,6.75) K3(-17.25,6.75) K4(-15.75,6.75) K5(-14.25,6.75) K6(-12.75,6.75) K7(-11.25,6.75) K8(-9.75,6.75) K9(-8.25,6.75) K10(-6.75,6.75) K11(-5.25,6.75) K12(-3.75,6.75) K13(-2.25,6.75) K14(-0.75,6.75) K15(0.75,6.75) K16(2.25,6.75) K17(3.75,6.75) K18(5.25,6.75) K19(6.75,6.75) K20(8.25,6.75) K21(9.75,6.75) K22(11.25,6.75) K23(12.75,6.75) K24(14.25,6.75) K25(15.75,6.75) K26(17.25,6.75) K27(18.75,6.75) K28(20.25,6.75) L1(-20.25,5.25) L2(-18.75,5.25) L3(-17.25,5.25) L4(-15.75,5.25) L5(-14.25,5.25) L6(-12.75,5.25) L7(-11.25,5.25) L8(-9.75,5.25) L9(-8.25,5.25) L10(-6.75,5.25) L11(-5.25,5.25) L12(-3.75,5.25) L13(-2.25,5.25) L14(-0.75,5.25) L15(0.75,5.25) L16(2.25,5.25) L17(3.75,5.25) L18(5.25,5.25) L19(6.75,5.25) L20(8.25,5.25) L21(9.75,5.25) L22(11.25,5.25) L23(12.75,5.25) L24(14.25,5.25) L25(15.75,5.25) L26(17.25,5.25) L27(18.75,5.25) L28(20.25,5.25) M1(-20.25,3.75) M2(-18.75,3.75) M3(-17.25,3.75) M4(-15.75,3.75) M5(-14.25,3.75) M6(-12.75,3.75) M7(-11.25,3.75) M8(-9.75,3.75) M9(-8.25,3.75) M10(-6.75,3.75) M11(-5.25,3.75) M12(-3.75,3.75) M13(-2.25,3.75) M14(-0.75,3.75) M15(0.75,3.75) M16(2.25,3.75) M17(3.75,3.75) M18(5.25,3.75) M19(6.75,3.75) M20(8.25,3.75) M21(9.75,3.75) M22(11.25,3.75) M23(12.75,3.75) M24(14.25,3.75) M25(15.75,3.75) M26(17.25,3.75) M27(18.75,3.75) M28(20.25,3.75) N1(-20.25,2.25) N2(-18.75,2.25) N3(-17.25,2.25) N4(-15.75,2.25) N5(-14.25,2.25) N6(-12.75,2.25) N7(-11.25,2.25) N8(-9.75,2.25) N9(-8.25,2.25) N10(-6.75,2.25) N11(-5.25,2.25) N12(-3.75,2.25) N13(-2.25,2.25) N14(-0.75,2.25) N15(0.75,2.25) N16(2.25,2.25) N17(3.75,2.25) N18(5.25,2.25) N19(6.75,2.25) N20(8.25,2.25) N21(9.75,2.25) N22(11.25,2.25) N23(12.75,2.25) N24(14.25,2.25) N25(15.75,2.25) N26(17.25,2.25) N27(18.75,2.25) N28(20.25,2.25) P1(-20.25,0.75) P2(-18.75,0.75) P3(-17.25,0.75) P4(-15.75,0.75) P5(-14.25,0.75) P6(-12.75,0.75) P7(-11.25,0.75) P8(-9.75,0.75) P9(-8.25,0.75) P10(-6.75,0.75) P11(-5.25,0.75) P12(-3.75,0.75) P13(-2.25,0.75) P14(-0.75,0.75) P15(0.75,0.75) P16(2.25,0.75) P17(3.75,0.75) P18(5.25,0.75) P19(6.75,0.75) P20(8.25,0.75) P21(9.75,0.75) P22(11.25,0.75) P23(12.75,0.75) P24(14.25,0.75) P25(15.75,0.75) P26(17.25,0.75) P27(18.75,0.75) P28(20.25,0.75) R1(-20.25,-0.75) R2(-18.75,-0.75) R3(-17.25,-0.75) R4(-15.75,-0.75) R5(-14.25,-0.75) R6(-12.75,-0.75) R7(-11.25,-0.75) R8(-9.75,-0.75) R9(-8.25,-0.75) R10(-6.75,-0.75) R11(-5.25,-0.75) R12(-3.75,-0.75) R13(-2.25,-0.75) R14(-0.75,-0.75) R15(0.75,-0.75) R16(2.25,-0.75) R17(3.75,-0.75) R18(5.25,-0.75) R19(6.75,-0.75) R20(8.25,-0.75) R21(9.75,-0.75) R22(11.25,-0.75) R23(12.75,-0.75) R24(14.25,-0.75) R25(15.75,-0.75) R26(17.25,-0.75) R27(18.75,-0.75) R28(20.25,-0.75) T1(-20.25,-2.25) T2(-18.75,-2.25) T3(-17.25,-2.25) T4(-15.75,-2.25) T5(-14.25,-2.25) T6(-12.75,-2.25) T7(-11.25,-2.25) T8(-9.75,-2.25) T9(-8.25,-2.25) T10(-6.75,-2.25) T11(-5.25,-2.25) T12(-3.75,-2.25) T13(-2.25,-2.25) T14(-0.75,-2.25) T15(0.75,-2.25) T16(2.25,-2.25) T17(3.75,-2.25) T18(5.25,-2.25) T19(6.75,-2.25) T20(8.25,-2.25) T21(9.75,-2.25) T22(11.25,-2.25) T23(12.75,-2.25) T24(14.25,-2.25) T25(15.75,-2.25) T26(17.25,-2.25) T27(18.75,-2.25) T28(20.25,-2.25) U1(-20.25,-3.75) U2(-18.75,-3.75) U3(-17.25,-3.75) U4(-15.75,-3.75) U5(-14.25,-3.75) U6(-12.75,-3.75) U7(-11.25,-3.75) U8(-9.75,-3.75) U9(-8.25,-3.75) U10(-6.75,-3.75) U11(-5.25,-3.75) U12(-3.75,-3.75) U13(-2.25,-3.75) U14(-0.75,-3.75) U15(0.75,-3.75) U16(2.25,-3.75) U17(3.75,-3.75) U18(5.25,-3.75) U19(6.75,-3.75) U20(8.25,-3.75) U21(9.75,-3.75) U22(11.25,-3.75) U23(12.75,-3.75) U24(14.25,-3.75) U25(15.75,-3.75) U26(17.25,-3.75) U27(18.75,-3.75) U28(20.25,-3.75) V1(-20.25,-5.25) V2(-18.75,-5.25) V3(-17.25,-5.25) V4(-15.75,-5.25) V5(-14.25,-5.25) V6(-12.75,-5.25) V7(-11.25,-5.25) V8(-9.75,-5.25) V9(-8.25,-5.25) V10(-6.75,-5.25) V11(-5.25,-5.25) V12(-3.75,-5.25) V13(-2.25,-5.25) V14(-0.75,-5.25) V15(0.75,-5.25) V16(2.25,-5.25) V17(3.75,-5.25) V18(5.25,-5.25) V19(6.75,-5.25) V20(8.25,-5.25) V21(9.75,-5.25) V22(11.25,-5.25) V23(12.75,-5.25) V24(14.25,-5.25) V25(15.75,-5.25) V26(17.25,-5.25) V27(18.75,-5.25) V28(20.25,-5.25) W1(-20.25,-6.75) W2(-18.75,-6.75) W3(-17.25,-6.75) W4(-15.75,-6.75) W5(-14.25,-6.75) W6(-12.75,-6.75) W7(-11.25,-6.75) W8(-9.75,-6.75) W9(-8.25,-6.75) W10(-6.75,-6.75) W11(-5.25,-6.75) W12(-3.75,-6.75) W13(-2.25,-6.75) W14(-0.75,-6.75) W15(0.75,-6.75) W16(2.25,-6.75) W17(3.75,-6.75) W18(5.25,-6.75) W19(6.75,-6.75) W20(8.25,-6.75) W21(9.75,-6.75) W22(11.25,-6.75) W23(12.75,-6.75) W24(14.25,-6.75) W25(15.75,-6.75) W26(17.25,-6.75) W27(18.75,-6.75) W28(20.25,-6.75) Y1(-20.25,-8.25) Y2(-18.75,-8.25) Y3(-17.25,-8.25) Y4(-15.75,-8.25) Y5(-14.25,-8.25) Y6(-12.75,-8.25) Y7(-11.25,-8.25) Y8(-9.75,-8.25) Y9(-8.25,-8.25) Y10(-6.75,-8.25) Y11(-5.25,-8.25) Y12(-3.75,-8.25) Y13(-2.25,-8.25) Y14(-0.75,-8.25) Y15(0.75,-8.25) Y16(2.25,-8.25) Y17(3.75,-8.25) Y18(5.25,-8.25) Y19(6.75,-8.25) Y20(8.25,-8.25) Y21(9.75,-8.25) Y22(11.25,-8.25) Y23(12.75,-8.25) Y24(14.25,-8.25) Y25(15.75,-8.25) Y26(17.25,-8.25) Y27(18.75,-8.25) Y28(20.25,-8.25)
Top Overlay:
  circle w0.25: c-21.9,20.25 r0.125
  region: -20.25,21.25 -21.25,20.25 -21.25,21.25
  lines w0.2: -21.25,20.25 -20.25,21.25 ; -21.25,-21.25 21.25,-21.25 21.25,21.25 -21.25,21.25 -21.25,-21.25
Mechanical 13:
  lines w0.1: -21.25,-21.25 21.25,-21.25 21.25,21.25 -21.25,21.25 -21.25,-21.25
Mechanical 15:
  lines w0.1: -0.5,0 0.5,0 ; 0,-0.5 0,0.5 ; -22.25,-22.25 22.25,-22.25 22.25,22.25 -22.25,22.25 -22.25,-22.25
3D body: height 3.5, standoff 0, extent -21.25,-21.25 21.25,21.25